# Altium schematic symbol library STM8AF62A6UCX.SchLib: 2 symbols
Pins are listed as number, name and electrical type; pins without a type are passive.

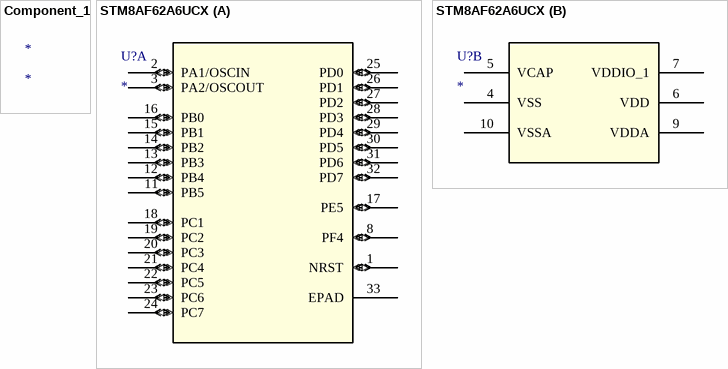
[diagram p0: symbols Component_1 to STM8AF62A6UCX]

## Component_1
designator *

## STM8AF62A6UCX
designator U?
No Description Available; Mfr_Name: STMicroelectronics; RefDes: RefDes; Type: Type
footprint VFQFPN32-5x5mm
part A pins: 1 NRST (io), 2 PA1/OSCIN (io), 3 PA2/OSCOUT (io), 8 PF4 (io), 11 PB5 (io), 12 PB4 (io), 13 PB3 (io), 14 PB2 (io), 15 PB1 (io), 16 PB0 (io), 17 PE5 (io), 18 PC1 (io), 19 PC2 (io), 20 PC3 (io), 21 PC4 (io), 22 PC5 (io), 23 PC6 (io), 24 PC7 (io), 25 PD0 (io), 26 PD1 (io), 27 PD2 (io), 28 PD3 (io), 29 PD4 (io), 30 PD5 (io), 31 PD6 (io), 32 PD7 (io), 33 EPAD
part B pins: 4 VSS (power), 5 VCAP (power), 6 VDD (power), 7 VDDIO_1 (power), 9 VDDA (power), 10 VSSA (power)